# Altium footprint library 封装库.PcbLib: 324 footprints (part 21 of 21)
Each footprint in its own frame and in the unit in brackets; x right, y up, seen from the top. Pads: shape width x height; smd on the part's side, far side on the other; paste and mask are expansions set on the pad; w line width, h text height; cw(c..) or ccw(c..) is an arc to the next point about the centre after c.
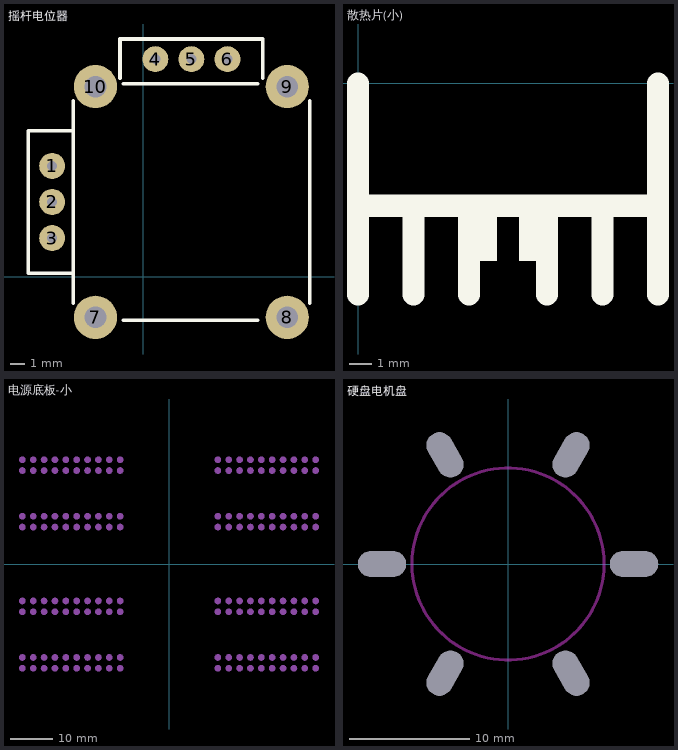
[diagram p20: the footprints below, top view; thin cyan lines are the x and y axes]

## 摇杆电位器 [mm]
pads (10):
  round 1.8 hole 0.7: 1(-6.3,7.675) 2(-6.3,5.175) 3(-6.3,2.675) 4(0.85,15.075) 5(3.35,15.075) 6(5.85,15.075)
  round 3 hole 1.5: 7(-3.3,-2.825) 8(10,-2.825) 9(10,13.175) 10(-3.3,13.175)
Top Overlay:
  lines w0.254: -4.85,-1.825 -4.85,12.175 ; -4.85,0.225 -7.95,0.225 -7.95,10.125 -4.85,10.125 ; -1.6,13.775 -1.6,16.475 8.3,16.475 8.3,13.775 ; -1.35,-3.025 7.95,-3.025 ; -1.35,13.375 7.95,13.375 ; 11.55,-1.825 11.55,12.175

## 散热片(小) [mm]
Top Overlay:
  rectangle: 7.25,-8 8.5,-5.5
  rectangle: 5,-8 6.25,-5.5
  lines w1: 0,-9.5 0,0 ; 0,-5.5 13.5,-5.5 ; 2.5,-9.5 2.5,-5.5 ; 5,-9.5 5,-5.5 ; 8.5,-9.5 8.5,-5.5 ; 11,-9.5 11,-5.5 ; 13.5,-9.5 13.5,0

## 电源底板-小 [mil]
pads (160):
  round 62 on Mech13: 1(-950,-860) 1(-950,-340) 1(-950,440) 1(-950,960) 1(950,-860) 1(950,-340) 1(950,440) 1(950,960) 2(-950,-960) 2(-950,-440) 2(-950,340) 2(-950,860) 2(950,-960) 2(950,-440) 2(950,340) 2(950,860) 3(-850,-860) 3(-850,-340) 3(-850,440) 3(-850,960) 3(1050,-860) 3(1050,-340) 3(1050,440) 3(1050,960) 4(-850,-960) 4(-850,-440) 4(-850,340) 4(-850,860) 4(1050,-960) 4(1050,-440) 4(1050,340) 4(1050,860) 5(-750,-860) 5(-750,-340) 5(-750,440) 5(-750,960) 5(1150,-860) 5(1150,-340) 5(1150,440) 5(1150,960) 6(-750,-960) 6(-750,-440) 6(-750,340) 6(-750,860) 6(1150,-960) 6(1150,-440) 6(1150,340) 6(1150,860) 7(-650,-860) 7(-650,-340) 7(-650,440) 7(-650,960) 7(1250,-860) 7(1250,-340) 7(1250,440) 7(1250,960) 8(-650,-960) 8(-650,-440) 8(-650,340) 8(-650,860) 8(1250,-960) 8(1250,-440) 8(1250,340) 8(1250,860) 9(-550,-860) 9(-550,-340) 9(-550,440) 9(-550,960) 9(1350,-860) 9(1350,-340) 9(1350,440) 9(1350,960) 10(-550,-960) 10(-550,-440) 10(-550,340) 10(-550,860) 10(1350,-960) 10(1350,-440) 10(1350,340) 10(1350,860) 11(-450,-860) 11(-450,-340) 11(-450,440) 11(-450,960) 12(-450,-960) 12(-450,-440) 12(-450,340) 12(-450,860) 13(-1050,-860) 13(-1050,-340) 13(-1050,440) 13(-1050,960) 13(850,-860) 13(850,-340) 13(850,440) 13(850,960) 14(-1050,-960) 14(-1050,-440) 14(-1050,340) 14(-1050,860) 14(850,-960) 14(850,-440) 14(850,340) 14(850,860) 15(-1150,-860) 15(-1150,-340) 15(-1150,440) 15(-1150,960) 15(750,-860) 15(750,-340) 15(750,440) 15(750,960) 16(-1150,-960) 16(-1150,-440) 16(-1150,340) 16(-1150,860) 16(750,-960) 16(750,-440) 16(750,340) 16(750,860) 17(-1250,-860) 17(-1250,-340) 17(-1250,440) 17(-1250,960) 17(650,-860) 17(650,-340) 17(650,440) 17(650,960) 18(-1250,-960) 18(-1250,-440) 18(-1250,340) 18(-1250,860) 18(650,-960) 18(650,-440) 18(650,340) 18(650,860) 19(-1350,-860) 19(-1350,-340) 19(-1350,440) 19(-1350,960) 19(550,-860) 19(550,-340) 19(550,440) 19(550,960) 20(-1350,-960) 20(-1350,-440) 20(-1350,340) 20(-1350,860) 20(550,-960) 20(550,-440) 20(550,340) 20(550,860) 21(450,-860) 21(450,-340) 21(450,440) 21(450,960) 22(450,-960) 22(450,-440) 22(450,340) 22(450,860)
Mechanical 13:
  text "GND" at -1565,931.84 h98.43
  text "GND" at -1565,311.84 h98.43
  text "VCC" at -1553.33,831.84 h98.43
  text "VEE" at -1546.17,411.84 h98.43

## 硬盘电机盘 [mm]
pads (6):
  round 0 hole 2.15 slot 4 at 0 deg unplated: 0(-10.5,0) 0(10.5,0)
  round 0 hole 2.15 slot 4 at 60 deg unplated: 0(-5.25,-9.093) 0(5.25,9.093)
  round 0 hole 2.15 slot 4 at 120 deg unplated: 0(-5.25,9.093) 0(5.25,-9.093)
Keep-Out Layer:
  circle w0.254: c0,0 r8